# Altium footprint library TC2030.PcbLib: 1 footprints
Each footprint in its own frame and in the unit in brackets; x right, y up, seen from the top. Pads: shape width x height; smd on the part's side, far side on the other; paste and mask are expansions set on the pad; w line width, h text height; cw(c..) or ccw(c..) is an arc to the next point about the centre after c.
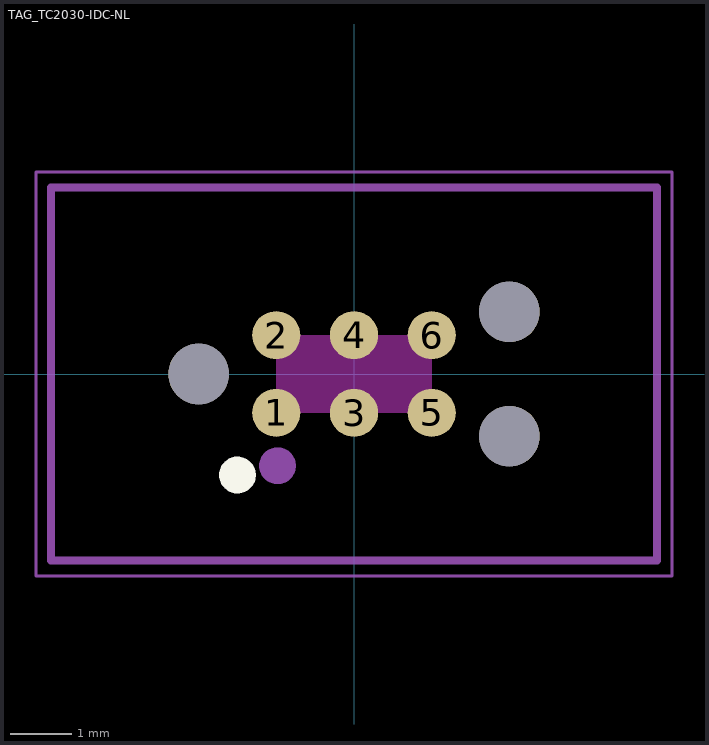
[diagram p0: the footprint, top view; thin cyan lines are the x and y axes]

## TAG_TC2030-IDC-NL [mil]
pads (9):
  round 30.98 smd paste-39.37: 1(-50,-25) 2(-50,25) 3(0,-25) 4(0,25) 5(50,-25) 6(50,25)
  round 39.02 hole 39.02 unplated: ""(-100,0) ""(100,-40) ""(100,40)
Top Overlay:
  circle w11.81: c-75,-65 r5.91
Keep-Out Layer:
  region: 50,-25.03 -50.06,-25.03 -50.06,25 50,25
  region: 50,-25.03 -50.05,-25.03 -50.05,25 50,25
Mechanical 13:
  circle w11.81: c-49.21,-59.06 r5.91
  lines w5: -195,-120 -195,120 195,120 195,-120 -195,-120
Mechanical 15:
  lines w1.97: -204.72,-129.92 204.72,-129.92 204.72,129.92 -204.72,129.92 -204.72,-129.92